# EAGLE library part 62002421121 (library Wurth_Elektronik2)
WR-PHD 2.00mm Dual Pin Header, 24 Pins=>Code : WR-PHD_Dual_Pin_Header_62002421121 <http://katalog.we-online.de/media/images/eican/WR-PHD_Dual_Pin_Header_6200xx21121.jpg> Details see: http://katalog.we-online.de/en/em/620_0xx_211_21 Created 2014-06-03, Karrer Zheng 2014 (C) Würth Elektronik
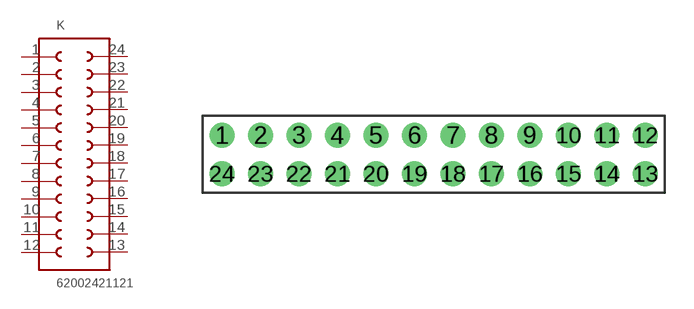
[diagram p238: symbol with the pads of 62002421121; footprint 62002421121]

Designator prefix K

## 62002421121  [62002421121]
1  1  pas
2  2  pas
3  3  pas
4  4  pas
5  5  pas
6  6  pas
7  7  pas
8  8  pas
9  9  pas
10  10  pas
11  11  pas
12  12  pas
13  13  pas
14  14  pas
15  15  pas
16  16  pas
17  17  pas
18  18  pas
19  19  pas
20  20  pas
21  21  pas
22  22  pas
23  23  pas
24  24  pas

## Footprint 62002421121 (pad centres in mm)
WR-PHD 2.00mm Dual Pin Header, 24 Pins
drill 0.8: 1 -10.27,1; 2 -8.27,1; 3 -6.27,1; 4 -4.27,1; 5 -2.27,1; 6 -0.27,1; 7 1.73,1; 8 3.73,1; 9 5.73,1; 10 7.73,1; 11 9.73,1; 12 11.73,1; 13 11.73,-1; 14 9.73,-1; 15 7.73,-1; 16 5.73,-1; 17 3.73,-1; 18 1.73,-1; 19 -0.27,-1; 20 -2.27,-1; 21 -4.27,-1; 22 -6.27,-1; 23 -8.27,-1; 24 -10.27,-1